# EAGLE library part AD7770 (library analog-devices)
ADC 24-BIT 32 KSPS
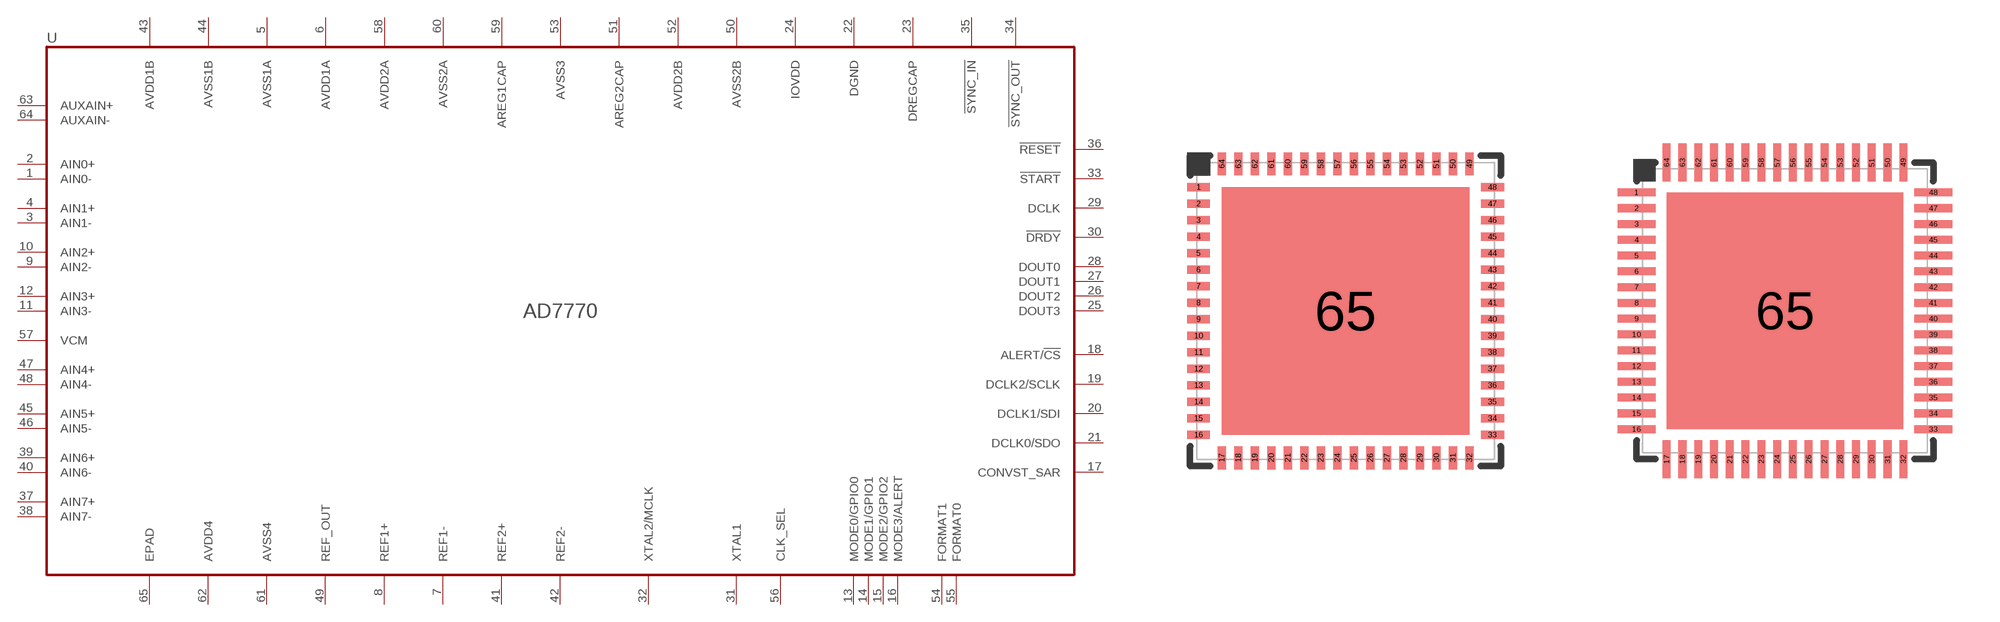
[diagram p87: symbol with the pads of WFQFN64; footprints WFQFN64, WFQFN64L]

Designator prefix U

## AD7770  [WFQFN64]
1  AIN0-  in
2  AIN0+  in
3  AIN1-  in
4  AIN1+  in
5  AVSS1A  pwr
6  AVDD1A  pwr
7  REF1-  in
8  REF1+  in
9  AIN2-  in
10  AIN2+  in
11  AIN3-  in
12  AIN3+  in
13  MODE0/GPIO0
14  MODE1/GPIO1
15  MODE2/GPIO2
16  MODE3/ALERT
17  CONVST_SAR  in
18  ALERT/!CS!
19  DCLK2/SCLK  in
20  DCLK1/SDI  in
21  DCLK0/SDO  out
22  DGND  pwr
23  DREGCAP  out
24  IOVDD  pwr
25  DOUT3
26  DOUT2
27  DOUT1  out
28  DOUT0  out
29  DCLK  out
30  !DRDY!  out
31  XTAL1  out
32  XTAL2/MCLK  in
33  !START!  in
34  !SYNC_OUT!  out
35  !SYNC_IN!
36  !RESET!  in
37  AIN7+  in
38  AIN7-  in
39  AIN6+  in
40  AIN6-  in
41  REF2+  in
42  REF2-  in
43  AVDD1B  pwr
44  AVSS1B  pwr
45  AIN5+  in
46  AIN5-  in
47  AIN4+  in
48  AIN4-  in
49  REF_OUT  out
50  AVSS2B  pwr
51  AREG2CAP  out
52  AVDD2B  pwr
53  AVSS3  pwr
54  FORMAT1  in
55  FORMAT0  in
56  CLK_SEL  in
57  VCM  pas
58  AVDD2A  pwr
59  AREG1CAP  out
60  AVSS2A  pwr
61  AVSS4  pwr
62  AVDD4  pwr
63  AUXAIN+  in
64  AUXAIN-  in
65  EPAD  pwr

## AD7770L  [WFQFN64L]
Pads as for WFQFN64

## Footprint WFQFN64 (pad centres in mm)
64-Lead Lead Frame Chip Scale Package [LFCSP] 9 mm × 9 mm Body and 0.75 mm Package Height
smd 0.7 x 0.25: 1 -4.45,3.75; 2 -4.45,3.25; 3 -4.45,2.75; 4 -4.45,2.25; 5 -4.45,1.75; 6 -4.45,1.25; 7 -4.45,0.75; 8 -4.45,0.25; 9 -4.45,-0.25; 10 -4.45,-0.75; 11 -4.45,-1.25; 12 -4.45,-1.75; 13 -4.45,-2.25; 14 -4.45,-2.75; 15 -4.45,-3.25; 16 -4.45,-3.75; 33 4.45,-3.75; 34 4.45,-3.25; 35 4.45,-2.75; 36 4.45,-2.25; 37 4.45,-1.75; 38 4.45,-1.25; 39 4.45,-0.75; 40 4.45,-0.25; 41 4.45,0.25; 42 4.45,0.75; 43 4.45,1.25; 44 4.45,1.75; 45 4.45,2.25; 46 4.45,2.75; 47 4.45,3.25; 48 4.45,3.75
smd 0.25 x 0.7: 17 -3.75,-4.45; 18 -3.25,-4.45; 19 -2.75,-4.45; 20 -2.25,-4.45; 21 -1.75,-4.45; 22 -1.25,-4.45; 23 -0.75,-4.45; 24 -0.25,-4.45; 25 0.25,-4.45; 26 0.75,-4.45; 27 1.25,-4.45; 28 1.75,-4.45; 29 2.25,-4.45; 30 2.75,-4.45; 31 3.25,-4.45; 32 3.75,-4.45; 49 3.75,4.45; 50 3.25,4.45; 51 2.75,4.45; 52 2.25,4.45; 53 1.75,4.45; 54 1.25,4.45; 55 0.75,4.45; 56 0.25,4.45; 57 -0.25,4.45; 58 -0.75,4.45; 59 -1.25,4.45; 60 -1.75,4.45; 61 -2.25,4.45; 62 -2.75,4.45; 63 -3.25,4.45; 64 -3.75,4.45
smd 7.5 x 7.5: 65 0,0

## Footprint WFQFN64L (pad centres in mm)
64-Lead Lead Frame Chip Scale Package [LFCSP] 9 mm × 9 mm Body and 0.75 mm Package Height, long leads
smd 1.2 x 0.25: 1 -4.7,3.75; 2 -4.7,3.25; 3 -4.7,2.75; 4 -4.7,2.25; 5 -4.7,1.75; 6 -4.7,1.25; 7 -4.7,0.75; 8 -4.7,0.25; 9 -4.7,-0.25; 10 -4.7,-0.75; 11 -4.7,-1.25; 12 -4.7,-1.75; 13 -4.7,-2.25; 14 -4.7,-2.75; 15 -4.7,-3.25; 16 -4.7,-3.75; 33 4.7,-3.75; 34 4.7,-3.25; 35 4.7,-2.75; 36 4.7,-2.25; 37 4.7,-1.75; 38 4.7,-1.25; 39 4.7,-0.75; 40 4.7,-0.25; 41 4.7,0.25; 42 4.7,0.75; 43 4.7,1.25; 44 4.7,1.75; 45 4.7,2.25; 46 4.7,2.75; 47 4.7,3.25; 48 4.7,3.75
smd 0.25 x 1.2: 17 -3.75,-4.7; 18 -3.25,-4.7; 19 -2.75,-4.7; 20 -2.25,-4.7; 21 -1.75,-4.7; 22 -1.25,-4.7; 23 -0.75,-4.7; 24 -0.25,-4.7; 25 0.25,-4.7; 26 0.75,-4.7; 27 1.25,-4.7; 28 1.75,-4.7; 29 2.25,-4.7; 30 2.75,-4.7; 31 3.25,-4.7; 32 3.75,-4.7; 49 3.75,4.7; 50 3.25,4.7; 51 2.75,4.7; 52 2.25,4.7; 53 1.75,4.7; 54 1.25,4.7; 55 0.75,4.7; 56 0.25,4.7; 57 -0.25,4.7; 58 -0.75,4.7; 59 -1.25,4.7; 60 -1.75,4.7; 61 -2.25,4.7; 62 -2.75,4.7; 63 -3.25,4.7; 64 -3.75,4.7
smd 7.5 x 7.5: 65 0,0